# Altium footprint library ConnectorsLib.PcbLib: 142 footprints (part 2 of 9)
Each footprint in its own frame and in the unit in brackets; x right, y up, seen from the top. Pads: shape width x height; smd on the part's side, far side on the other; paste and mask are expansions set on the pad; w line width, h text height; cw(c..) or ccw(c..) is an arc to the next point about the centre after c.
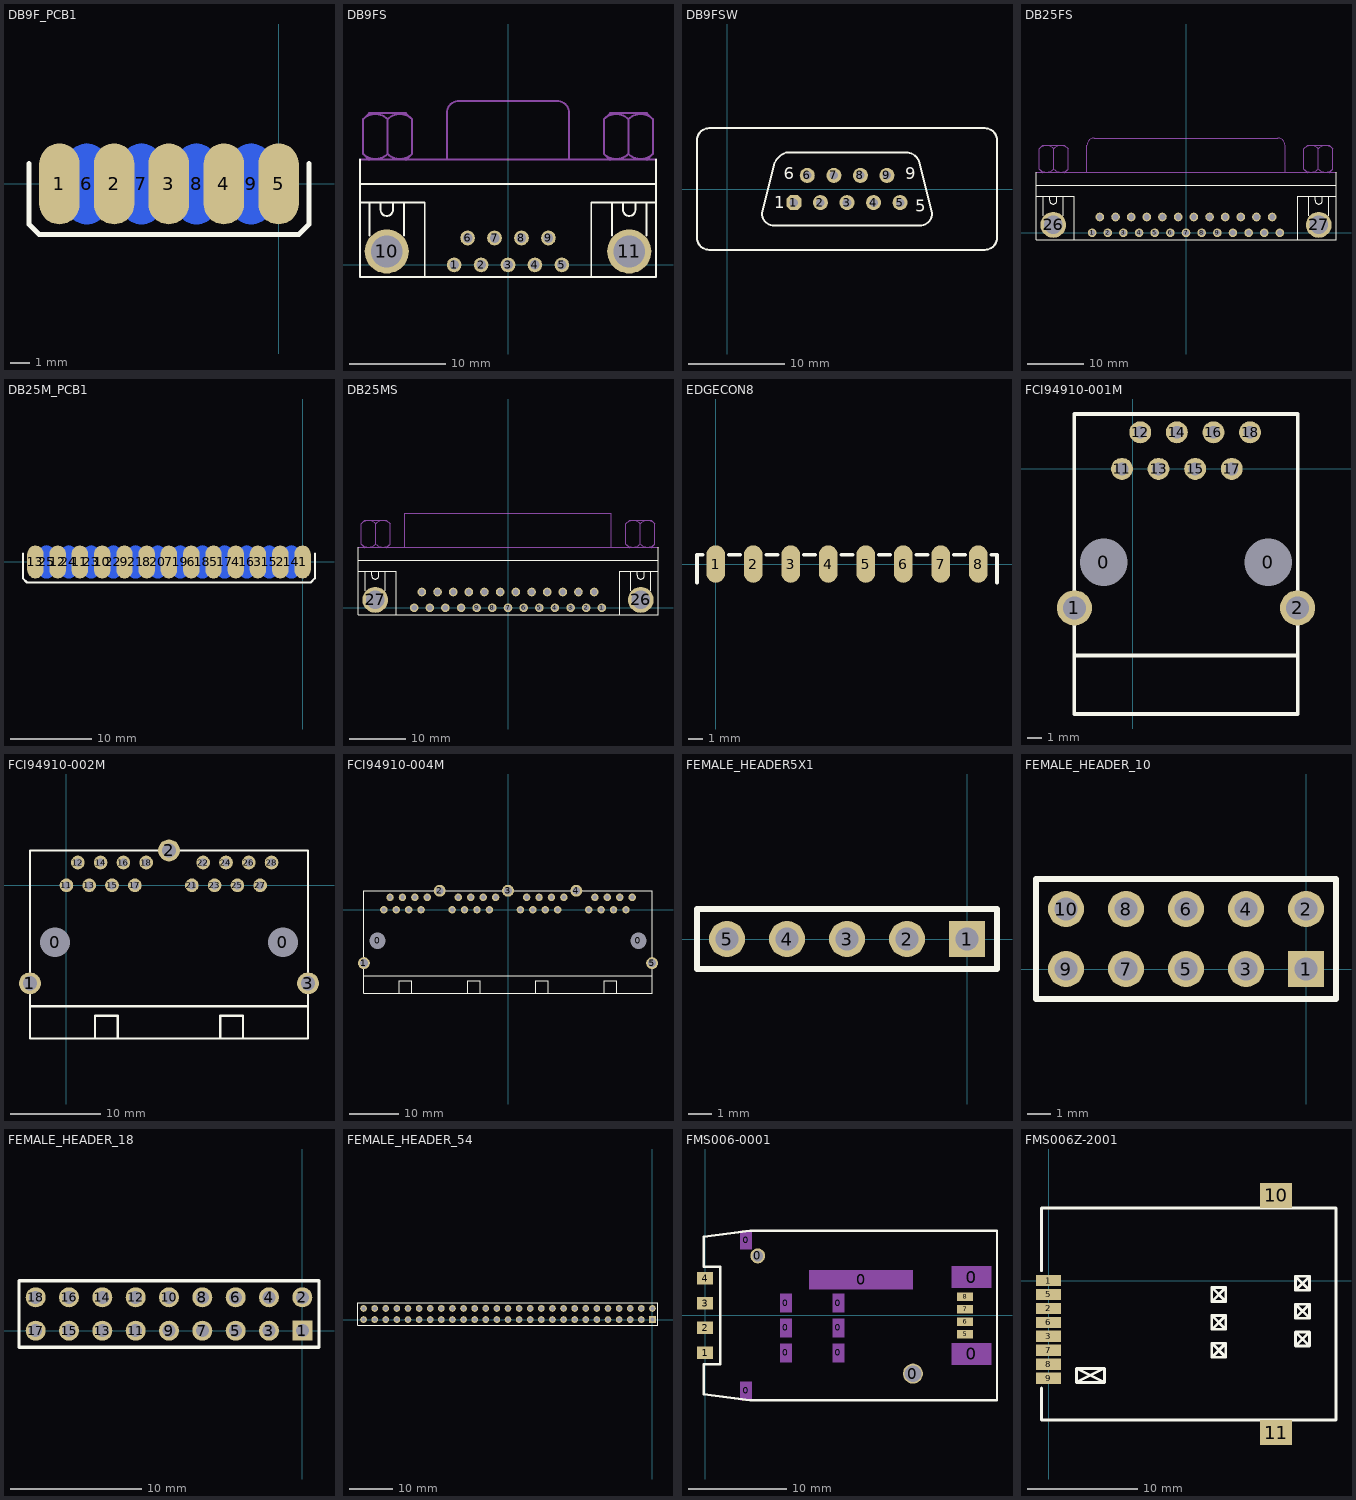
[diagram p1: the footprints below, top view; thin cyan lines are the x and y axes]

## DB9F_PCB1 [mil]
pads (9):
  oval 80x160 smd: 1(-433,0) 2(-325,0) 3(-217,0) 4(-108,0) 5(0,0)
  oval 80x160 smd far side: 6(-379,0) 7(-271,0) 8(-162,0) 9(-54,0)
Top Overlay:
  lines w10: -493,40 -493,-80 -473,-100 40,-100 60,-80 60,40

## DB9FS [mil]
pads (11):
  round 60 hole 39: 1(-220,0) 2(-110,0) 3(0,0) 4(110,0) 5(220,0) 6(-165,110) 7(-55,110) 8(55,110) 9(165,110)
  round 180 hole 130: 10(-495,55) 11(495,55)
Top Overlay:
  lines w8: -605,330 605,330 ; -605,430 -605,-50 605,-50 605,430 ; -600,255 -340,255 -340,-50 ; -565,120 -565,250 ; -520,250 -520,225 ccw(c-495,225) -470,225 -470,250 ; -425,120 -425,250 ; 340,-50 340,255 600,255 ; 425,120 425,250 ; 470,250 470,225 ccw(c495,225) 520,225 520,250 ; 565,120 565,250
Mechanical 1:
  lines w8: -605,430 605,430 ; -591.75,453.25 ccw(c-541.67,503.33) -491.58,453.25 ; -591.75,595.09 cw(c-541.67,545) -491.58,595.09 ; -566.67,428.33 -591.67,453.33 -591.67,595 -566.67,620 -416.67,620 -391.67,595 -391.67,453.33 -416.67,428.33 ; -491.75,453.25 ccw(c-441.67,503.33) -391.58,453.25 ; -491.75,595.09 cw(c-441.67,545) -391.58,595.09 ; -491.67,453.33 -491.67,595 ; -250,430 -250,620 cw(c-200,620) -200,670 200,670 cw(c200,620) 250,620 250,430 ; 391.58,453.25 ccw(c441.67,503.33) 491.75,453.25 ; 391.58,595.09 cw(c441.67,545) 491.75,595.09 ; 416.67,428.33 391.67,453.33 391.67,595 416.67,620 566.67,620 591.67,595 591.67,453.33 566.67,428.33 ; 491.58,453.25 ccw(c541.67,503.33) 591.75,453.25 ; 491.58,595.09 cw(c541.67,545) 591.75,595.09 ; 491.67,453.33 491.67,595

## DB9FSW [mil]
pads (9):
  oct 62x62 hole 35: 1(274.17,-55.83)
  round 62 hole 35: 2(383.33,-55.83) 3(492.5,-55.83) 4(601.67,-55.83) 5(710.83,-55.83) 6(329.17,55.83) 7(438.33,55.83) 8(547.5,55.83) 9(656.67,55.83)
Top Overlay:
  lines w8: -124.17,200 cw(c-74.17,200) -74.17,250 1059.17,250 cw(c1059.17,200) 1109.17,200 1109.17,-200 cw(c1059.17,-200) 1059.17,-250 -74.17,-250 cw(c-74.17,-200) -124.17,-200 -124.17,208.33 ; 192.5,100 142.5,-100 ccw(c192.5,-100) 192.5,-150 792.5,-150 ccw(c792.5,-100) 842.5,-100 792.5,100 ; 195.18,107.2 cw(c267.5,75) 243.04,150.29 ; 242.5,150 742.5,150 ; 742.4,150.26 cw(c734.17,91.67) 792.76,99.9
  text "9" at 732.5,40 h50
  text "5" at 773.5,-93.8 h50
  text "1" at 192.5,-80 h50
  text "6" at 232.5,40 h50

## DB25FS [mil]
pads (27):
  round 60 hole 39: 1(-654,0) 2(-545,0) 3(-436,0) 4(-327,0) 5(-218,0) 6(-109,0) 7(0,0) 8(109,0) 9(218,0) 10(327,0) 11(436,0) 12(545,0) 13(654,0) 14(-600,110) 15(-491,110) 16(-382,110) 17(-273,110) 18(-164,110) 19(-55,110) 20(55,110) 21(164,110) 22(273,110) 23(382,110) 24(491,110) 25(600,110)
  round 180 hole 130: 26(-925,55) 27(925,55)
Top Overlay:
  lines w8: -1045,330 1045,330 ; -1045,420 -1045,-50 1045,-50 1045,420 ; -1040,255 -780,255 -780,-50 ; -995,120 -995,250 ; -950,250 -950,225 ccw(c-925,225) -900,225 -900,250 ; -855,120 -855,250 ; 780,-50 780,255 1040,255 ; 855,120 855,250 ; 900,250 900,225 ccw(c925,225) 950,225 950,250 ; 995,120 995,250
Mechanical 1:
  lines w8: -1045,420 1045,420 ; -1021.75,443.25 ccw(c-971.67,493.33) -921.58,443.25 ; -1021.75,585.09 cw(c-971.67,535) -921.58,585.09 ; -996.67,418.33 -1021.67,443.33 -1021.67,585 -996.67,610 -846.67,610 -821.67,585 -821.67,443.33 -846.67,418.33 ; -921.75,443.25 ccw(c-871.67,493.33) -821.58,443.25 ; -921.75,585.09 cw(c-871.67,535) -821.58,585.09 ; -921.67,443.33 -921.67,585 ; -690,420 -690,610 cw(c-640,610) -640,660 640,660 cw(c640,610) 690,610 690,420 ; 821.58,443.25 ccw(c871.67,493.33) 921.75,443.25 ; 821.58,585.09 cw(c871.67,535) 921.75,585.09 ; 846.67,418.33 821.67,443.33 821.67,585 846.67,610 996.67,610 1021.67,585 1021.67,443.33 996.67,418.33 ; 921.58,443.25 ccw(c971.67,493.33) 1021.75,443.25 ; 921.58,585.09 cw(c971.67,535) 1021.75,585.09 ; 921.67,443.33 921.67,585

## DB25M_PCB1 [mil]
pads (25):
  oval 80x160 smd: 1(0,0) 2(-108,0) 3(-217,0) 4(-325,0) 5(-433,0) 6(-541,0) 7(-650,0) 8(-758,0) 9(-866,0) 10(-974,0) 11(-1083,0) 12(-1191,0) 13(-1299,0)
  oval 80x160 smd far side: 14(-54,0) 15(-162,0) 16(-271,0) 17(-379,0) 18(-487,0) 19(-595,0) 20(-704,0) 21(-812,0) 22(-920,0) 23(-1028,0) 24(-1137,0) 25(-1245,0)
Top Overlay:
  lines w10: -1360,40 -1360,-80 -1340,-100 40,-100 60,-80 60,40

## DB25MS [mil]
pads (27):
  round 60 hole 39: 1(654,0) 2(545,0) 3(436,0) 4(327,0) 5(218,0) 6(109,0) 7(0,0) 8(-109,0) 9(-218,0) 10(-327,0) 11(-436,0) 12(-545,0) 13(-654,0) 14(600,110) 15(491,110) 16(382,110) 17(273,110) 18(164,110) 19(55,110) 20(-55,110) 21(-164,110) 22(-273,110) 23(-382,110) 24(-491,110) 25(-600,110)
  round 180 hole 130: 26(925,55) 27(-925,55)
Top Overlay:
  lines w8: -1045,330 1045,330 ; -1045,420 -1045,-50 1045,-50 1045,420 ; -1040,255 -780,255 -780,-50 ; -995,120 -995,250 ; -950,250 -950,225 ccw(c-925,225) -900,225 -900,250 ; -855,120 -855,250 ; 780,-50 780,255 1040,255 ; 855,120 855,250 ; 900,250 900,225 ccw(c925,225) 950,225 950,250 ; 995,120 995,250
Mechanical 1:
  lines w8: -1045,420 1045,420 ; -1021.75,443.25 ccw(c-971.67,493.33) -921.58,443.25 ; -1021.75,585.09 cw(c-971.67,535) -921.58,585.09 ; -996.67,418.33 -1021.67,443.33 -1021.67,585 -996.67,610 -846.67,610 -821.67,585 -821.67,443.33 -846.67,418.33 ; -921.75,443.25 ccw(c-871.67,493.33) -821.58,443.25 ; -921.75,585.09 cw(c-871.67,535) -821.58,585.09 ; -921.67,443.33 -921.67,585 ; -720,420 -720,660 720,660 720,420 ; 821.58,443.25 ccw(c871.67,493.33) 921.75,443.25 ; 821.58,585.09 cw(c871.67,535) 921.75,585.09 ; 846.67,418.33 821.67,443.33 821.67,585 846.67,610 996.67,610 1021.67,585 1021.67,443.33 996.67,418.33 ; 921.58,443.25 ccw(c971.67,493.33) 1021.75,443.25 ; 921.58,585.09 cw(c971.67,535) 1021.75,585.09 ; 921.67,443.33 921.67,585

## EDGECON8 [mil]
pads (8):
  oval 50x100 smd: 1(0,0) 2(100,0) 3(200,0) 4(300,0) 5(400,0) 6(500,0) 7(600,0) 8(700,0)
Top Overlay:
  lines w10: -50,-50 -50,25 -35,25 ; 35,25 65,25 ; 135,25 165,25 ; 235,25 265,25 ; 335,25 365,25 ; 435,25 465,25 ; 535,25 565,25 ; 635,25 665,25 ; 735,25 750,25 750,-50

## FCI94910-001M [mil]
pads (12):
  round 96 hole 130: 0(-80,-255) 0(370,-255)
  round 96 hole 63: 1(-160,-380) 2(450,-380)
  round 60 hole 35: 11(-30,0) 12(20,100) 13(70,0) 14(120,100) 15(170,0) 16(220,100) 17(270,0) 18(320,100)
Top Overlay:
  lines w10: -160,-510 450,-510 ; -160,-670 450,-670 450,150 -160,150 -160,-670

## FCI94910-002M [mil]
pads (21):
  round 96 hole 130: 0(-50,-250) 0(950,-250)
  round 96 hole 63: 1(-160,-430) 2(450,153) 3(1060,-430)
  round 60 hole 35: 11(0,0) 12(50,100) 13(100,0) 14(150,100) 15(200,0) 16(250,100) 17(300,0) 18(350,100) 21(550,0) 22(600,100) 23(650,0) 24(700,100) 25(750,0) 26(800,100) 27(850,0) 28(900,100)
Top Overlay:
  lines w10: -160,-530 1060,-530 ; 125,-672 125,-572 225,-572 225,-672 ; 675,-671 675,-572 775,-572 775,-672 ; -160,-672 -160,153 1060,153 1060,-672 -160,-672

## FCI94910-004M [mil]
pads (39):
  round 96 hole 130: 0(-1050,-250) 0(1050,-250)
  round 96 hole 63: 1(-1160,-430) 2(-550,153) 3(0,153) 4(550,153) 5(1160,-430)
  round 60 hole 35: 11(-1000,0) 12(-950,100) 13(-900,0) 14(-850,100) 15(-800,0) 16(-750,100) 17(-700,0) 18(-650,100) 21(-450,0) 22(-400,100) 23(-350,0) 24(-300,100) 25(-250,0) 26(-200,100) 27(-150,0) 28(-100,100) 31(100,0) 32(150,100) 33(200,0) 34(250,100) 35(300,0) 36(350,100) 37(400,0) 38(450,100) 41(650,0) 42(700,100) 43(750,0) 44(800,100) 45(850,0) 46(900,100) 47(950,0) 48(1000,100)
Top Overlay:
  lines w10: -1160,-530 1160,-530 ; -875,-672 -875,-572 -775,-572 -775,-672 ; -325,-671 -325,-572 -225,-572 -225,-672 ; 225,-672 225,-572 325,-572 325,-672 ; 775,-672 775,-572 875,-572 875,-672 ; -1160,-672 -1160,153 1160,153 1160,-672 -1160,-672

## FEMALE_HEADER5X1 [mil]
pads (5):
  rect 60x60 hole 39: 1(0,0)
  round 60 hole 39: 2(-100,0) 3(-200,0) 4(-300,0) 5(-400,0)
Top Overlay:
  lines w10: -450,-50 -450,50 50,50 50,-50 -450,-50
3D body: height 338.19, standoff -122.44, extent -454.73,-49.22 55.11,49.21

## FEMALE_HEADER_10 [mil]
pads (10):
  rect 60x60 hole 39: 1(0,0)
  round 60 hole 39: 2(0,100) 3(-100,0) 4(-100,100) 5(-200,0) 6(-200,100) 7(-300,0) 8(-300,100) 9(-400,0) 10(-400,100)
Top Overlay:
  lines w10: -450,-50 -450,150 50,150 50,-50 -450,-50

## FEMALE_HEADER_18 [mil]
pads (18):
  rect 60x60 hole 39: 1(0,0)
  round 60 hole 39: 2(0,100) 3(-100,0) 4(-100,100) 5(-200,0) 6(-200,100) 7(-300,0) 8(-300,100) 9(-400,0) 10(-400,100) 11(-500,0) 12(-500,100) 13(-600,0) 14(-600,100) 15(-700,0) 16(-700,100) 17(-800,0) 18(-800,100)
Top Overlay:
  lines w10: -850,-50 -850,150 50,150 50,-50 -850,-50

## FEMALE_HEADER_54 [mil]
pads (54):
  rect 60x60 hole 39: 1(0,0)
  round 60 hole 39: 2(0,100) 3(-100,0) 4(-100,100) 5(-200,0) 6(-200,100) 7(-300,0) 8(-300,100) 9(-400,0) 10(-400,100) 11(-500,0) 12(-500,100) 13(-600,0) 14(-600,100) 15(-700,0) 16(-700,100) 17(-800,0) 18(-800,100) 19(-900,0) 20(-900,100) 21(-1000,0) 22(-1000,100) 23(-1100,0) 24(-1100,100) 25(-1200,0) 26(-1200,100) 27(-1300,0) 28(-1300,100) 29(-1400,0) 30(-1400,100) 31(-1500,0) 32(-1500,100) 33(-1600,0) 34(-1600,100) 35(-1700,0) 36(-1700,100) 37(-1800,0) 38(-1800,100) 39(-1900,0) 40(-1900,100) 41(-2000,0) 42(-2000,100) 43(-2100,0) 44(-2100,100) 45(-2200,0) 46(-2200,100) 47(-2300,0) 48(-2300,100) 49(-2400,0) 50(-2400,100) 51(-2500,0) 52(-2500,100) 53(-2600,0) 54(-2600,100)
Top Overlay:
  lines w10: -2650,-50 50,-50 50,150 -2650,150 -2650,-50

## FMS006-0001 [mil] "Memory Card Connector"
pads (21):
  rect 48x76 on Mech4: 0(164,-302) 0(164,302) 0(324,-150) 0(324,-50) 0(324,50) 0(534,-150) 0(534,-50) 0(534,50)
  round 60 hole 44: 0(211,239)
  rect 416x78 on Mech4: 0(625,144)
  round 80 hole 67: 0(833,-233)
  rect 160x88 on Mech4: 0(1068,-154) 0(1068,154)
  rect 65x50 smd: 1(0,-150) 2(0,-50) 3(0,50) 4(0,150)
  rect 65x35 smd: 5(1042,-75) 6(1042,-25) 7(1042,25) 8(1042,75)
Top Overlay:
  lines w10: -5,-315 -5,-195 60,-195 60,195 -5,195 -5,315 180,340 1170,340 1170,-340 180,-340 -5,-315

## FMS006Z-2001 [mil] "Memory Card Connector"
pads (10):
  rect 90x40 smd: 1(0,0) 2(0,-100) 3(0,-200) 5(0,-50) 6(0,-150) 7(0,-250) 8(0,-300) 9(0,-350)
  rect 115x90 smd: 10(815,305) 11(815,-545)
Top Overlay:
  lines w10: -25,-385 -25,-500 1030,-500 1030,260 -25,260 -25,35 ; 100,-365 100,-315 ; 100,-365 200,-365 ; 100,-365 200,-315 ; 100,-315 200,-315 ; 100,-315 200,-365 ; 200,-365 200,-315 ; 585,-275 635,-225 ; 585,-275 585,-225 ; 585,-275 635,-275 ; 585,-225 635,-275 ; 585,-225 635,-225 ; 585,-175 635,-125 ; 585,-175 585,-125 ; 585,-175 635,-175 ; 585,-125 635,-175 ; 585,-125 635,-125 ; 585,-75 635,-25 ; 585,-75 585,-25 ; 585,-75 635,-75 ; 585,-25 635,-75 ; 585,-25 635,-25 ; 635,-275 635,-225 ; 635,-175 635,-125 ; 635,-75 635,-25 ; 885,-235 935,-185 ; 885,-235 885,-185 ; 885,-235 935,-235 ; 885,-185 935,-235 ; 885,-185 935,-185 ; 885,-135 935,-85 ; 885,-135 885,-85 ; 885,-135 935,-135 ; 885,-85 935,-135 ; 885,-85 935,-85 ; 885,-35 935,15 ; 885,-35 885,15 ; 885,-35 935,-35 ; 885,15 935,-35 ; 885,15 935,15 ; 935,-235 935,-185 ; 935,-135 935,-85 ; 935,-35 935,15